# Altium schematic symbol library Microver.SchLib: 988 symbols (part 5 of 17)
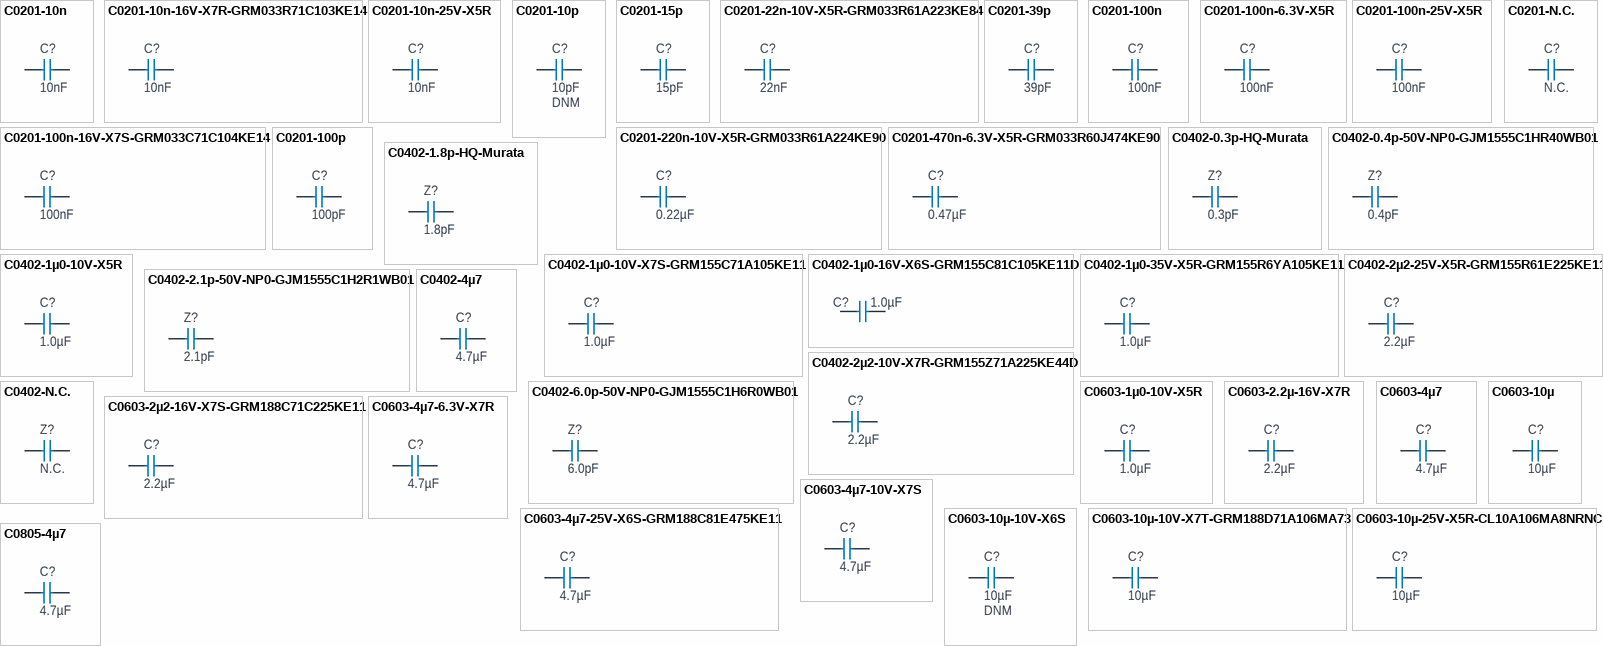
[diagram p33: symbols C0201-10n to C0805-4µ7]

## C0603-4µ7-10V-X7S
designator C?, comment 4.7µF
Capacitor, X7S, ±10%, 10V; Part Number: C0603-4µ7-10V-X7S; Manufacturer: N.A.; Part number IPS: 00000001779; Part number NEMS: 100200351; Pad Count: 2; Artikkelnr Noca: 20030013; Component Status: Active; Value: 4.7µF; Footprint Doc: 0603; Component Class: Capacitors; Author: rsk; ComponentLink1Description: Datasheet; ComponentLink1URL: N.A.; ComponentLink2Description: Supplier link; ComponentLink2URL: N.A.; HelpURL: N.A.; LatestRevisionDate: 2016-08-15; Manufacturer Part Number: N.A.; Note: 10V; PartId: 100200351; Part number Norautron: N.A.; Published: 2016-08-15; Supplier 1: Digi-Key; Supplier 2: N.A.; Supplier Part Number 1: 445-14258-1-ND; Supplier Part Number 2: N.A.
footprint CAPC1608X06L
pins: 1, 2

## C0603-4µ7-25V-X6S-GRM188C81E475KE11
designator C?, comment 4.7µF
Capacitor, Ceramic, 4.7µF 25V X6S 0603,±10%; Part Number: C0603-4µ7-25V-X6S-GRM188C81E475KE11; Manufacturer: Murata; Manufacturer Part Number: GRM188C81E475KE11D; Part number NEMS: 100200486; Pad Count: 2; Artikkelnr Noca: N.A.; Component Status: Active; Component Class: Capacitors; Author: prbu; ComponentLink1URL: https://www.murata.com/en-global/products/productdetail?partno=GRM188C81E475KE11%23; ComponentLink1Description: Datasheet; ComponentLink2URL: https://www.digikey.com/en/products/detail/murata-electronics/GRM188C81E475KE11D/3900424; ComponentLink2Description: Supplier link; HelpURL: N.A.; Footprint Doc: 0603; LatestRevisionDate: 2021-12-09; Published: 2021-12-09; Value: 4.7µF; Note: 25V; Supplier 1: Digi-Key; Supplier Part Number 1: 490-7199-1-ND; Supplier 2: Mouser; Supplier Part Number 2: 81-GRM188C81E475KE1D; Part number IPS: N.A.; Part number Norautron: N.A.; PartId: 100200486
footprint CAPC1608X06L
pins: 1, 2

## C0603-10µ
designator C?, comment 10µF
Capacitor, X5R, ±20%; Part Number: C0603-10µ; Manufacturer: N.A.; Part number IPS: 00000007785; Part number NEMS: 100200275; Note: 6.3V; Artikkelnr Noca: 20039234; Pad Count: 2; Component Status: Active; Manufacturer Part Number: N.A.; ComponentLink1URL: N.A.; ComponentLink1Description: Datasheet; ComponentLink2URL: N.A.; ComponentLink2Description: Supplier link; HelpURL: N.A.; Footprint Doc: 0603; LatestRevisionDate: 2011-01-17; Published: 2011-01-17; Value: 10µF; Supplier 1: N.A.; Supplier Part Number 1: N.A.; Supplier 2: N.A.; Supplier Part Number 2: N.A.; Component Class: Capacitors; PartId: 100200275; Author: rsk; Part number Norautron: N.A.
footprint CAPC1608X06L
pins: 1, 2

## C0603-10µ-10V-X6S
designator C?, comment 10µF  Assembly: DNM
Capacitor, X6S, ±10%; Part Number: C0603-10µ-10V-X6S; Manufacturer: N.A.; Part number NEMS: 100200470; Component Status: Active; Pad Count: 2; Note: 10V; PartId: 100200470; Component Class: Capacitors; Author: getr; Manufacturer Part Number: N.A.; ComponentLink1URL: N.A.; ComponentLink1Description: Datasheet; ComponentLink2URL: N.A.; ComponentLink2Description: Supplier link; HelpURL: N.A.; LatestRevisionDate: 2021-04-13; Published: 2021-04-13; Footprint Doc: 0603; Value: 10µF; Supplier 1: N.A.; Supplier Part Number 1: N.A.; Supplier 2: N.A.; Supplier Part Number 2: N.A.; Artikkelnr Noca: N.A.; Part number IPS: N.A.; Part number Norautron: N.A.
footprint CAPC1608X06L
pins: 1, 2

## C0603-10µ-10V-X7T-GRM188D71A106MA73
designator C?, comment 10µF
Capacitor, X7T, ±20%, 10V; Part Number: C0603-10µ-10V-X7T-GRM188D71A106MA73; Manufacturer: Murata; Manufacturer Part Number: GRM188D71A106MA73D; Part number IPS: 00000004696; Part number NEMS: 100200414; Pad Count: 2; Component Status: Active; Note: 10VDC; Artikkelnr Noca: N.A.; Component Class: Capacitors; Author: rsk; Footprint Doc: 0603; Value: 10µF; PartId: 100200414; ComponentLink1URL: N.A.; ComponentLink1Description: Datasheet; ComponentLink2URL: N.A.; ComponentLink2Description: Supplier link; HelpURL: https://no.mouser.com/datasheet/2/281/murata_03052018_GRM_Series_1-1310166.pdf; LatestRevisionDate: 2021-07-22; Published: 2018-09-11; Supplier 1: Digi-Key; Supplier Part Number 1: 490-7200-1-ND; Supplier 2: Mouser; Supplier Part Number 2: 81-GRM188D71A106MA3D; Part number Norautron: N.A.
footprint CAPC1608X06L
pins: 1, 2

## C0603-10µ-25V-X5R-CL10A106MA8NRNC
designator C?, comment 10µF
Capacitor, X5R, ±20%, 25V; Part Number: C0603-10µ-25V-X5R-CL10A106MA8NRNC; Manufacturer: Samsung Electro-Mechanics America; Manufacturer Part Number: CL10A106MA8NRNC; Part number IPS: 00000009948; Part number Norautron: N.A.; Part number NEMS: 100200354; Component Status: Active; Pad Count: 2; Artikkelnr Noca: 20039436; PartId: 100200354; Component Class: Capacitors; Author: rsk; ComponentLink1URL: N.A.; ComponentLink1Description: Datasheet; ComponentLink2URL: N.A.; ComponentLink2Description: Supplier link; HelpURL: http://www.samsungsem.com/kr/front/downloadcms.do?path=/kr/support/product-search/mlcc/__icsFiles/afieldfile/2014/11/05&fileName=S_CL10A106MA8NRNC.pdf; Footprint Doc: 0603; LatestRevisionDate: 2021-07-21; Published: 2015-04-10; Value: 10µF; Note: 25V; Supplier 1: Digi-Key; Supplier Part Number 1: 1276-1869-1-ND; Supplier 2: N.A.; Supplier Part Number 2: N.A.
footprint CAPC1608X06L
pins: 1, 2

## C0805-4µ7
designator C?, comment 4.7µF
Capacitor, X5R, ±10%, 16V; Part Number: C0805-4µ7; Manufacturer: N.A.; Part number IPS: 00000006289; Part number NEMS: 100200284; Pad Count: 2; Component Status: Active; Artikkelnr Noca: 20039266; Footprint Doc: 0805; Value: 4.7µF; Author: rsk; PartId: 100200284; Component Class: Capacitors; Manufacturer Part Number: N.A.; ComponentLink1URL: N.A.; ComponentLink1Description: Datasheet; ComponentLink2URL: N.A.; ComponentLink2Description: Supplier link; HelpURL: N.A.; LatestRevisionDate: 2020-04-28; Published: 2009-08-21; Note: 16V; Supplier 1: N.A.; Supplier Part Number 1: N.A.; Supplier 2: N.A.; Supplier Part Number 2: N.A.; Part number Norautron: N.A.
footprint CAPC2012X11L
pins: 1, 2

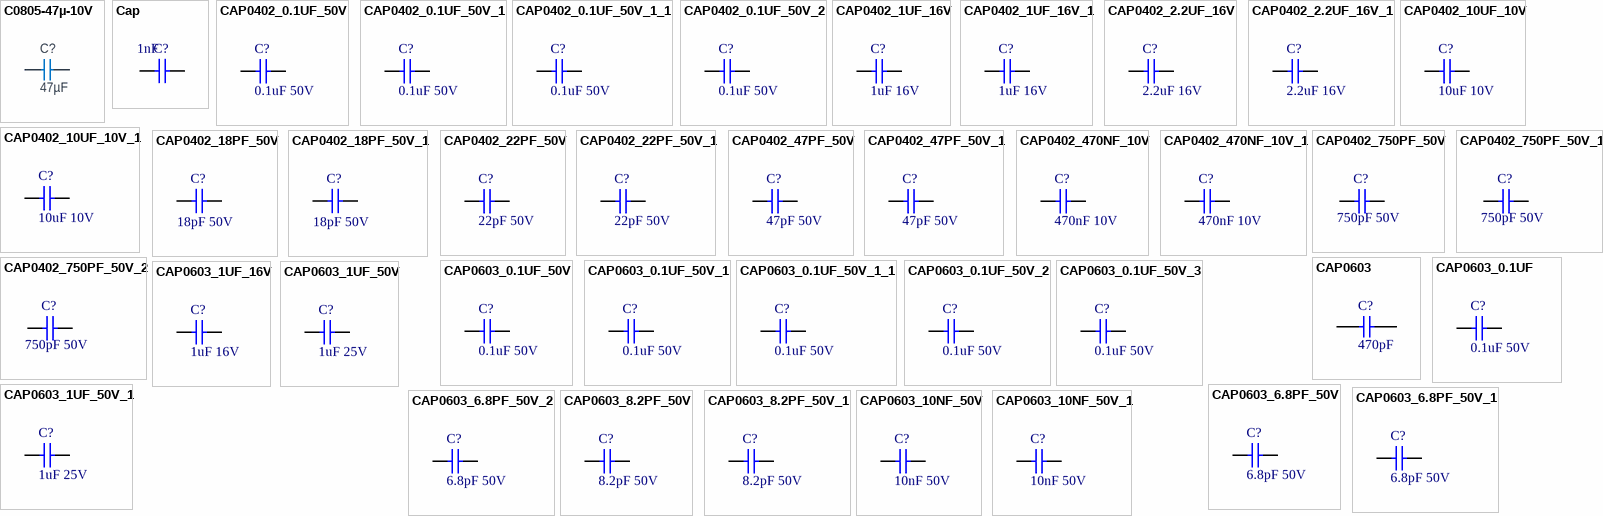
[diagram p6: symbols C0805-47µ-10V to CAP0603_10NF_50V_1]

## C0805-47µ-10V
designator C?, comment 47µF
Capacitor, X5R, ±20%, 10V; Part Number: C0805-47µ-10V; Manufacturer: Murata; Manufacturer Part Number: GRM21BR61A476ME15; Part number IPS: 00000004759; Part number NEMS: 100200288; Pad Count: 2; Component Status: Active; Artikkelnr Noca: N.A.; Footprint Doc: 0805; Value: 47µF; Author: rsk; PartId: 100200288; Component Class: Capacitors; ComponentLink1URL: https://search.murata.co.jp/Ceramy/image/img/A01X/G101/ENG/GRM21BR61A476ME15-01A.pdf; ComponentLink1Description: Datasheet; ComponentLink2URL: N.A.; ComponentLink2Description: Supplier link; HelpURL: https://www.murata.com/en-global/products/productdetail?partno=GRM21BR61A476ME15%23; LatestRevisionDate: 2020-10-23; Published: 2020-08-14; Note: 10V; Supplier 1: Digi-Key; Supplier Part Number 1: 490-9961-1-ND; Supplier 2: N.A.; Supplier Part Number 2: N.A.; Part number Norautron: N.A.
footprint CAPC2012X11L
pins: 1, 2

## Cap
designator C?, comment value 1nF  (hidden comment: 100nF)
LCSC PART #: C2894188
footprint 0603_C (Capacitor)
footprint 0805_C
footprint 1206_C
footprint 1210_C
footprint 0402_C
pins: 1, 2

## CAP0402_0.1UF_50V
designator C?, comment value 0.1uF 50V  (hidden comment: CAP CER 0.1UF 50V X7R 0402)
0.1 µF ±10% 50V Ceramic Capacitor X7R 0402 (1005 Metric); Manufacturer Part Number: CL05B104KB54PNC; Order Code: DIGI: 1276-CL05B104KB54PNCTR-ND; Sirius Stock Code: *; LCSC Part Number: C307331; LCSC Manufacturer Part Number: CL05B104KB54PNC
footprint CAP0402(1005)x0.5
pins: 1, 2

## CAP0402_0.1UF_50V_1
designator C?, comment value 0.1uF 50V  (hidden comment: CAP CER 0.1UF 50V X7R 0402)
0.1 µF ±10% 50V Ceramic Capacitor X7R 0402 (1005 Metric); Manufacturer Part Number: CL05B104KB54PNC; Order Code: DIGI: 1276-CL05B104KB54PNCTR-ND; Sirius Stock Code: *; LCSC Part Number: C307331; LCSC Manufacturer Part Number: CL05B104KB54PNC
footprint CAP0402(1005)x0.5
pins: 1, 2

## CAP0402_0.1UF_50V_1_1
designator C?, comment value 0.1uF 50V  (hidden comment: CAP CER 0.1UF 50V X7R 0402)
0.1 µF ±10% 50V Ceramic Capacitor X7R 0402 (1005 Metric); Manufacturer Part Number: CL05B104KB54PNC; Order Code: DIGI: 1276-CL05B104KB54PNCTR-ND; Sirius Stock Code: *; LCSC Part Number: C307331; LCSC Manufacturer Part Number: CL05B104KB54PNC
footprint CAP0402(1005)x0.5
pins: 1, 2

## CAP0402_0.1UF_50V_2
designator C?, comment value 0.1uF 50V  (hidden comment: CAP CER 0.1UF 50V X7R 0402)
0.1 µF ±10% 50V Ceramic Capacitor X7R 0402 (1005 Metric); Manufacturer Part Number: CL05B104KB54PNC; Order Code: DIGI: 1276-CL05B104KB54PNCTR-ND; Sirius Stock Code: *; LCSC Part Number: C307331; LCSC Manufacturer Part Number: CL05B104KB54PNC
footprint CAP0402(1005)x0.5
pins: 1, 2

## CAP0402_1UF_16V
designator C?, comment value 1uF 16V  (hidden comment: CAP CER 1UF 16V X5R 0402)
1 µF ±10% 16V Ceramic Capacitor X5R 0402 (1005 Metric); Manufacturer Part Number: CL05A105KO5NNNC; Order Code: DIGI: 1276-1067-2-ND; Sirius Stock Code: *; LCSC Part Number: C29266; LCSC Manufacturer Part Number: CL05A105KO5NNNC
footprint CAP0402(1005)x0.5
pins: 1, 2

## CAP0402_1UF_16V_1
designator C?, comment value 1uF 16V  (hidden comment: CAP CER 1UF 16V X5R 0402)
1 µF ±10% 16V Ceramic Capacitor X5R 0402 (1005 Metric); Manufacturer Part Number: CL05A105KO5NNNC; Order Code: DIGI: 1276-1067-2-ND; Sirius Stock Code: *; LCSC Part Number: C29266; LCSC Manufacturer Part Number: CL05A105KO5NNNC
footprint CAP0402(1005)x0.5
pins: 1, 2

## CAP0402_2.2UF_16V
designator C?, comment value 2.2uF 16V  (hidden comment: CAP CER 2.2UF 16V X5R 0402)
2.2 µF ±10% 16V Ceramic Capacitor X5R 0402 (1005 Metric); Manufacturer Part Number: CL05A225KO5NQNC; Order Code: DIGI: 1276-1461-2-ND; Sirius Stock Code: *; LCSC Part Number: C170151; LCSC Manufacturer Part Number: CL05A225KO5NQNC
footprint CAP0402(1005)x0.5
pins: 1, 2

## CAP0402_2.2UF_16V_1
designator C?, comment value 2.2uF 16V  (hidden comment: CAP CER 2.2UF 16V X5R 0402)
2.2 µF ±10% 16V Ceramic Capacitor X5R 0402 (1005 Metric); Manufacturer Part Number: CL05A225KO5NQNC; Order Code: DIGI: 1276-1461-2-ND; Sirius Stock Code: *; LCSC Part Number: C170151; LCSC Manufacturer Part Number: CL05A225KO5NQNC
footprint CAP0402(1005)x0.5
pins: 1, 2

## CAP0402_10UF_10V
designator C?, comment value 10uF 10V  (hidden comment: CAP CER 10UF 10V X5R 0402)
10 µF ±20% 10V Ceramic Capacitor X5R 0402 (1005 Metric); Manufacturer Part Number: CL05A106MP5NUNC; Order Code: DIGI: 1276-1450-2-ND; Sirius Stock Code: *; LCSC Part Number: C315248; LCSC Manufacturer Part Number: CL05A106MP5NUNC
footprint CAP0402(1005)x0.5
pins: 1, 2

## CAP0402_10UF_10V_1
designator C?, comment value 10uF 10V  (hidden comment: CAP CER 10UF 10V X5R 0402)
10 µF ±20% 10V Ceramic Capacitor X5R 0402 (1005 Metric); Manufacturer Part Number: CL05A106MP5NUNC; Order Code: DIGI: 1276-1450-2-ND; Sirius Stock Code: *; LCSC Part Number: C315248; LCSC Manufacturer Part Number: CL05A106MP5NUNC
footprint CAP0402(1005)x0.5
pins: 1, 2

## CAP0402_18PF_50V
designator C?, comment value 18pF 50V  (hidden comment: CAP CER 18PF 50V C0G/NPO 0402)
18 pF ±5% 50V Ceramic Capacitor C0G, NP0 0402 (1005 Metric); Manufacturer Part Number: CC0402JRNPO9BN180; Order Code: DIGI: 311-1415-2-ND; Sirius Stock Code: *; LCSC Part Number: C106202; LCSC Manufacturer Part Number: CC0402JRNPO9BN180
footprint CAP0402(1005)x0.5
pins: 1, 2

## CAP0402_18PF_50V_1
designator C?, comment value 18pF 50V  (hidden comment: CAP CER 18PF 50V C0G/NPO 0402)
18 pF ±5% 50V Ceramic Capacitor C0G, NP0 0402 (1005 Metric); Manufacturer Part Number: CC0402JRNPO9BN180; Order Code: DIGI: 311-1415-2-ND; Sirius Stock Code: *; LCSC Part Number: C106202; LCSC Manufacturer Part Number: CC0402JRNPO9BN180
footprint CAP0402(1005)x0.5
pins: 1, 2

## CAP0402_22PF_50V
designator C?, comment value 22pF 50V  (hidden comment: CAP CER 22PF 50V C0G/NPO 0402)
22 pF ±5% 50V Ceramic Capacitor C0G, NP0 0402 (1005 Metric); Manufacturer Part Number: CC0402JRNPO9BN220; Order Code: DIGI: 311-1018-2-ND; Sirius Stock Code: *; LCSC Part Number: C106203; LCSC Manufacturer Part Number: CC0402JRNPO9BN220
footprint CAP0402(1005)x0.5
pins: 1, 2

## CAP0402_22PF_50V_1
designator C?, comment value 22pF 50V  (hidden comment: CAP CER 22PF 50V C0G/NPO 0402)
22 pF ±5% 50V Ceramic Capacitor C0G, NP0 0402 (1005 Metric); Manufacturer Part Number: CC0402JRNPO9BN220; Order Code: DIGI: 311-1018-2-ND; Sirius Stock Code: *; LCSC Part Number: C106203; LCSC Manufacturer Part Number: CC0402JRNPO9BN220
footprint CAP0402(1005)x0.5
pins: 1, 2

## CAP0402_47PF_50V
designator C?, comment value 47pF 50V  (hidden comment: CAP CER 47PF 50V C0G/NPO 0402)
47 pF ±5% 50V Ceramic Capacitor C0G, NP0 0402 (1005 Metric); Manufacturer Part Number: CC0402JRNPO9BN470; Order Code: DIGI: 311-1021-2-ND; Sirius Stock Code: *; LCSC Part Number: C60137; LCSC Manufacturer Part Number: CC0402JRNPO9BN470
footprint CAP0402(1005)x0.5
pins: 1, 2

## CAP0402_47PF_50V_1
designator C?, comment value 47pF 50V  (hidden comment: CAP CER 47PF 50V C0G/NPO 0402)
47 pF ±5% 50V Ceramic Capacitor C0G, NP0 0402 (1005 Metric); Manufacturer Part Number: CC0402JRNPO9BN470; Order Code: DIGI: 311-1021-2-ND; Sirius Stock Code: *; LCSC Part Number: C60137; LCSC Manufacturer Part Number: CC0402JRNPO9BN470
footprint CAP0402(1005)x0.5
pins: 1, 2

## CAP0402_470NF_10V
designator C?, comment value 470nF 10V  (hidden comment: CAP CER 0.47UF 10V X5R 0402)
0.47 µF ±10% 10V Ceramic Capacitor X5R 0402 (1005 Metric); Manufacturer Part Number: CL05A474KP5NNNC; Order Code: DIGI: 1276-1173-2-ND; Sirius Stock Code: *; LCSC Part Number: C47339; LCSC Manufacturer Part Number: CL05A474KP5NNNC
footprint CAP0402(1005)x0.5
pins: 1, 2

## CAP0402_470NF_10V_1
designator C?, comment value 470nF 10V  (hidden comment: CAP CER 0.47UF 10V X5R 0402)
0.47 µF ±10% 10V Ceramic Capacitor X5R 0402 (1005 Metric); Manufacturer Part Number: CL05A474KP5NNNC; Order Code: DIGI: 1276-1173-2-ND; Sirius Stock Code: *; LCSC Part Number: C47339; LCSC Manufacturer Part Number: CL05A474KP5NNNC
footprint CAP0402(1005)x0.5
pins: 1, 2

## CAP0402_750PF_50V
designator C?, comment value 750pF 50V  (hidden comment: CAP CER 750PF 50V C0G/NP0 0402)
750 pF ±5% 50V Ceramic Capacitor C0G, NP0 0402 (1005 Metric); Manufacturer Part Number: GCM1555C1H751JA16D; Order Code: DIGI: 490-GCM1555C1H751JA16DTR-ND; Sirius Stock Code: *; LCSC Part Number: C710656; LCSC Manufacturer Part Number: GCM1555C1H751JA16D
footprint CAP0402(1005)x0.5
pins: 1, 2

## CAP0402_750PF_50V_1
designator C?, comment value 750pF 50V  (hidden comment: CAP CER 750PF 50V C0G/NP0 0402)
750 pF ±5% 50V Ceramic Capacitor C0G, NP0 0402 (1005 Metric); Manufacturer Part Number: GCM1555C1H751JA16D; Order Code: DIGI: 490-GCM1555C1H751JA16DTR-ND; Sirius Stock Code: *; LCSC Part Number: C710656; LCSC Manufacturer Part Number: GCM1555C1H751JA16D
footprint CAP0402(1005)x0.5
pins: 1, 2

## CAP0402_750PF_50V_2
designator C?, comment value 750pF 50V  (hidden comment: CAP CER 750PF 50V C0G/NP0 0402)
750 pF ±5% 50V Ceramic Capacitor C0G, NP0 0402 (1005 Metric); Manufacturer Part Number: GCM1555C1H751JA16D; Order Code: DIGI: 490-GCM1555C1H751JA16DTR-ND; Sirius Stock Code: *; LCSC Part Number: C710656; LCSC Manufacturer Part Number: GCM1555C1H751JA16D
footprint CAP0402(1005)x0.5
pins: 1, 2

## CAP0603
designator C?, comment 470pF
CAP, MLCC, C0G/NP0, 470PF, 50V, 0603; Product Range:YAGEO - CC Series; Capacitance:470pF; Capacitance Tolerance:± 5%; Dielectric Characteristic:C0G / NP0; Voltage Rating:50V; Ceramic Capacitor Case:0603 [1608 Metric]; Operating ;RoHS Compliant: Yes; Manufacturer: Yageo; Manufacturer Part Number: CC0603JRNPO9BN471; Dielectric: C0G; Insulation Resistance: 100GR; ComponentLink1URL: https://chn-vm-apps.microchip.com/mchprepo/parts/Datasheets/smccp.pdf; ComponentLink1Description: Datasheet; Supplier 1: Digi-Key; Supplier Part Number 1: 311-1520-1-ND; RoHS: Yes; Category: Ceramic Capacitors; Stock 1: 310942; Pricing 1: 1=0,12000, 10=0,08400, 50=0,04780, 100=0,03970, 500=0,02782, 1000=0,02303 (USD); Mount: Surface Mount; Case/Package: 0603; Number of Pins: 2; Case Code (Metric): 1608; Case Code (Imperial): 0603; Dielectric Material: Ceramic; Min Operating Temperature: -55°C; Max Operating Temperature: 125°C; Capacitance: 470pF; Tolerance: 5%; Voltage: 50V; Voltage Rating: 50V; Packaging: Tape and Reel; Voltage Rating (DC): 50V; Package Quantity: 1; Termination: SMD/SMT; Resistor Type: Ceramic; Series: CC; Length: 1.6mm; Width: 0.031inch; Height: 0.8mm; Depth: 0.8mm; Thickness: 0.035inch; Radiation Hardening: No; RoHS Compliant: Yes; REACH SVHC: No SVHC; Lead Free: Lead Free; ComponentLink2URL: https://datasheet.ciiva.com/176/mlccorderingcode-176597.pdf?src-supplier=Digi-Key; ComponentLink2Description: https://datasheet.ciiva.com/176/mlccorderingcode-176597.pdf?src-supplier=Digi-Key; ComponentLink3URL: https://datasheet.ciiva.com/7978/1132289-7978149.pdf?src-supplier=Element14; ComponentLink3Description: https://datasheet.ciiva.com/7978/1132289-7978149.pdf?src-supplier=Element14; ComponentLink4URL: https://datasheet.ciiva.com/176/mlccorderingcode-176598.pdf?src-supplier=Digi-Key; ComponentLink4Description: https://datasheet.ciiva.com/176/mlccorderingcode-176598.pdf?src-supplier=Digi-Key; ComponentLink5URL: https://datasheet.ciiva.com/8033/1734582-8033750.pdf?src-supplier=Element14; ComponentLink5Description: https://datasheet.ciiva.com/8033/1734582-8033750.pdf?src-supplier=Element14; ComponentLink6URL: https://datasheet.ciiva.com/176/mlccorderingcode-176599.pdf?src-supplier=Digi-Key; ComponentLink6Description: https://datasheet.ciiva.com/176/mlccorderingcode-176599.pdf?src-supplier=Digi-Key; ComponentLink7URL: https://datasheet.ciiva.com/15189/getdatasheetpartid-403537-15189147.pdf?src-supplier=Verical; ComponentLink7Description: https://datasheet.ciiva.com/15189/getdatasheetpartid-403537-15189147.pdf?src-supplier=Verical; ComponentLink8URL: https://datasheet.ciiva.com/11464/upy-gp-np0-16v-to-50v-8-11464732.pdf?src-supplier=Avnet; ComponentLink8Description: https://datasheet.ciiva.com/11464/upy-gp-np0-16v-to-50v-8-11464732.pdf?src-supplier=Avnet; ComponentLink9URL: https://datasheet.ciiva.com/13386/upy-gp-np0-16v-to-50v-8-13386333.pdf?src-supplier=Mouser; ComponentLink9Description: https://datasheet.ciiva.com/13386/upy-gp-np0-16v-to-50v-8-13386333.pdf?src-supplier=Mouser; ComponentLink10URL: https://datasheet.ciiva.com/28450/1443161-28450510.pdf?src-supplier=Element14; ComponentLink10Description: https://datasheet.ciiva.com/28450/1443161-28450510.pdf?src-supplier=Element14
footprint C 0603(1608)x0.8_3
pins: 1, 2

## CAP0603_0.1UF
designator C?, comment value 0.1uF 50V  (hidden comment: CAP CER 0.1UF 50V X7R 0603)
0.1 µF ±10% 50V Ceramic Capacitor X7R 0603 (1608 Metric); Manufacturer Part Number: CL10B104KB8NNNL; Order Code: DIGI:1276-CL10B104KB8NNNLTR-ND; Sirius Stock Code: A063-AGC10300001226
footprint CAP0603 (CAPACITOR 0603)
pins: 1, 2

## CAP0603_0.1UF_50V
designator C?, comment value 0.1uF 50V  (hidden comment: CAP CER 0.1UF 50V X7R 0603)
0.1 µF ±10% 50V Ceramic Capacitor X7R 0603 (1608 Metric); Manufacturer Part Number: CL10B104KB8NNNL; LCSC Manufacturer Part Number: CL10B104KB8NNNC; Order Code: DIGI:1276-CL10B104KB8NNNLTR-ND; Sirius Stock Code: A063-AGC10300001226; LCSC Part Number: C1591
footprint SMC0603
pins: 1, 2

## CAP0603_0.1UF_50V_1
designator C?, comment value 0.1uF 50V  (hidden comment: CAP CER 0.1UF 50V X7R 0603)
0.1 µF ±10% 50V Ceramic Capacitor X7R 0603 (1608 Metric); Manufacturer Part Number: CL10B104KB8NNNL; LCSC Manufacturer Part Number: CL10B104KB8NNNC; Order Code: DIGI:1276-CL10B104KB8NNNLTR-ND; Sirius Stock Code: A063-AGC10300001226; LCSC Part Number: C1591
footprint CAP0603 (CAPACITOR 0603)
pins: 1, 2

## CAP0603_0.1UF_50V_1_1
designator C?, comment value 0.1uF 50V  (hidden comment: CAP CER 0.1UF 50V X7R 0603)
0.1 µF ±10% 50V Ceramic Capacitor X7R 0603 (1608 Metric); Manufacturer Part Number: CL10B104KB8NNNL; LCSC Manufacturer Part Number: CL10B104KB8NNNC; Order Code: DIGI:1276-CL10B104KB8NNNLTR-ND; Sirius Stock Code: A063-AGC10300001226; LCSC Part Number: C1591
footprint CAP0603 (CAPACITOR 0603)
pins: 1, 2

## CAP0603_0.1UF_50V_2
designator C?, comment value 0.1uF 50V  (hidden comment: CAP CER 0.1UF 50V X7R 0603)
0.1 µF ±10% 50V Ceramic Capacitor X7R 0603 (1608 Metric); Manufacturer Part Number: CL10B104KB8NNNL; LCSC Manufacturer Part Number: CL10B104KB8NNNC; Order Code: DIGI:1276-CL10B104KB8NNNLTR-ND; Sirius Stock Code: A063-AGC10300001226; LCSC Part Number: C1591
footprint SMC0603
pins: 1, 2

## CAP0603_0.1UF_50V_3
designator C?, comment value 0.1uF 50V  (hidden comment: CAP CER 0.1UF 50V X7R 0603)
0.1 µF ±10% 50V Ceramic Capacitor X7R 0603 (1608 Metric); Manufacturer Part Number: CL10B104KB8NNNL; LCSC Manufacturer Part Number: CL10B104KB8NNNC; Order Code: DIGI:1276-CL10B104KB8NNNLTR-ND; Sirius Stock Code: A063-AGC10300001226; LCSC Part Number: C1591
footprint SMC0603
pins: 1, 2

## CAP0603_1UF_16V
designator C?, comment value 1uF 16V  (hidden comment: CAP CER 1UF 16V X5R 0603)
1 µF ±10% 16V Ceramic Capacitor X5R 0603 (1608 Metric); Manufacturer Part Number: CL10A105KO8NNNC; Order Code: DIGI:1276-1034-2-ND; Sirius Stock Code: S114-0001UFD1KO
footprint CAP0603 (CAPACITOR 0603)
pins: 1, 2

## CAP0603_1UF_50V
designator C?, comment value 1uF 25V  (hidden comment: CAP CER 1UF 25V X5R 0603)
1 µF ±10% 25V Ceramic Capacitor X5R 0603 (1608 Metric); Manufacturer Part Number: CL10A105KA8NNNC; Order Code: Digi: 1276-1102-2-ND; Sirius Stock Code: *; LCSC Part Number: C5673; LCSC Manufacturer Part Number: CL10A105KA8NNNC
footprint SMC0603
pins: 1, 2

## CAP0603_1UF_50V_1
designator C?, comment value 1uF 25V  (hidden comment: CAP CER 1UF 25V X5R 0603)
1 µF ±10% 25V Ceramic Capacitor X5R 0603 (1608 Metric); Manufacturer Part Number: CL10A105KA8NNNC; Order Code: Digi: 1276-1102-2-ND; Sirius Stock Code: *; LCSC Part Number: C5673; LCSC Manufacturer Part Number: CL10A105KA8NNNC
footprint SMC0603
pins: 1, 2

## CAP0603_6.8PF_50V
designator C?, comment value 6.8pF 50V  (hidden comment: CAP CER 6.8PF 50V C0G, NP0 0603)
50V 6.8pF C0G 0603 Multilayer Ceramic Capacitors MLCC - SMD/SMT ROHS; Manufacturer Part Number: 0603CG6R8C500NT; Order Code: LCSC: C1679; Sirius Stock Code: *; LCSC Part Number: C1679; LCSC Manufacturer Part Number: 0603CG6R8C500NT
footprint SMC0603
pins: 1, 2

## CAP0603_6.8PF_50V_1
designator C?, comment value 6.8pF 50V  (hidden comment: CAP CER 6.8PF 50V C0G, NP0 0603)
50V 6.8pF C0G 0603 Multilayer Ceramic Capacitors MLCC - SMD/SMT ROHS; Manufacturer Part Number: 0603CG6R8C500NT; Order Code: LCSC: C1679; Sirius Stock Code: *; LCSC Part Number: C1679; LCSC Manufacturer Part Number: 0603CG6R8C500NT
footprint SMC0603
pins: 1, 2

## CAP0603_6.8PF_50V_2
designator C?, comment value 6.8pF 50V  (hidden comment: CAP CER 6.8PF 50V C0G, NP0 0603)
50V 6.8pF C0G 0603 Multilayer Ceramic Capacitors MLCC - SMD/SMT ROHS; Manufacturer Part Number: 0603CG6R8C500NT; Order Code: LCSC: C1679; Sirius Stock Code: *; LCSC Part Number: C1679; LCSC Manufacturer Part Number: 0603CG6R8C500NT
footprint SMC0603
pins: 1, 2

## CAP0603_8.2PF_50V
designator C?, comment value 8.2pF 50V  (hidden comment: CAP CER 8.2PF 50V C0G/NPO 0603)
8.2 pF ±0.25pF 50V Ceramic Capacitor C0G, NP0 0603 (1608 Metric); Manufacturer Part Number: CC0603CRNPO9BN8R2; Order Code: DIGI : 311-3865-2-ND; LCSC Manufacturer Part Number: CC0603CRNPO9BN8R2; LCSC Part Number: C277519
footprint SMC0603
pins: 1, 2

## CAP0603_8.2PF_50V_1
designator C?, comment value 8.2pF 50V  (hidden comment: CAP CER 8.2PF 50V C0G/NPO 0603)
8.2 pF ±0.25pF 50V Ceramic Capacitor C0G, NP0 0603 (1608 Metric); Manufacturer Part Number: CC0603CRNPO9BN8R2; Order Code: DIGI : 311-3865-2-ND; LCSC Manufacturer Part Number: CC0603CRNPO9BN8R2; LCSC Part Number: C277519
footprint SMC0603
pins: 1, 2

## CAP0603_10NF_50V
designator C?, comment value 10nF 50V  (hidden comment: CAP CER 10000PF 50V X7R 0603)
10000 pF ±10% 50V Ceramic Capacitor X7R 0603 (1608 Metric); Manufacturer Part Number: CL10B103KB8NNNC; Order Code: DIGI : 1276-1009-2-ND; LCSC Manufacturer Part Number: CL10B103KB8NNNC; LCSC Part Number: C1589
footprint SMC0603
pins: 1, 2

## CAP0603_10NF_50V_1
designator C?, comment value 10nF 50V  (hidden comment: CAP CER 10000PF 50V X7R 0603)
10000 pF ±10% 50V Ceramic Capacitor X7R 0603 (1608 Metric); Manufacturer Part Number: CL10B103KB8NNNC; Order Code: DIGI : 1276-1009-2-ND; LCSC Manufacturer Part Number: CL10B103KB8NNNC; LCSC Part Number: C1589
footprint SMC0603
pins: 1, 2

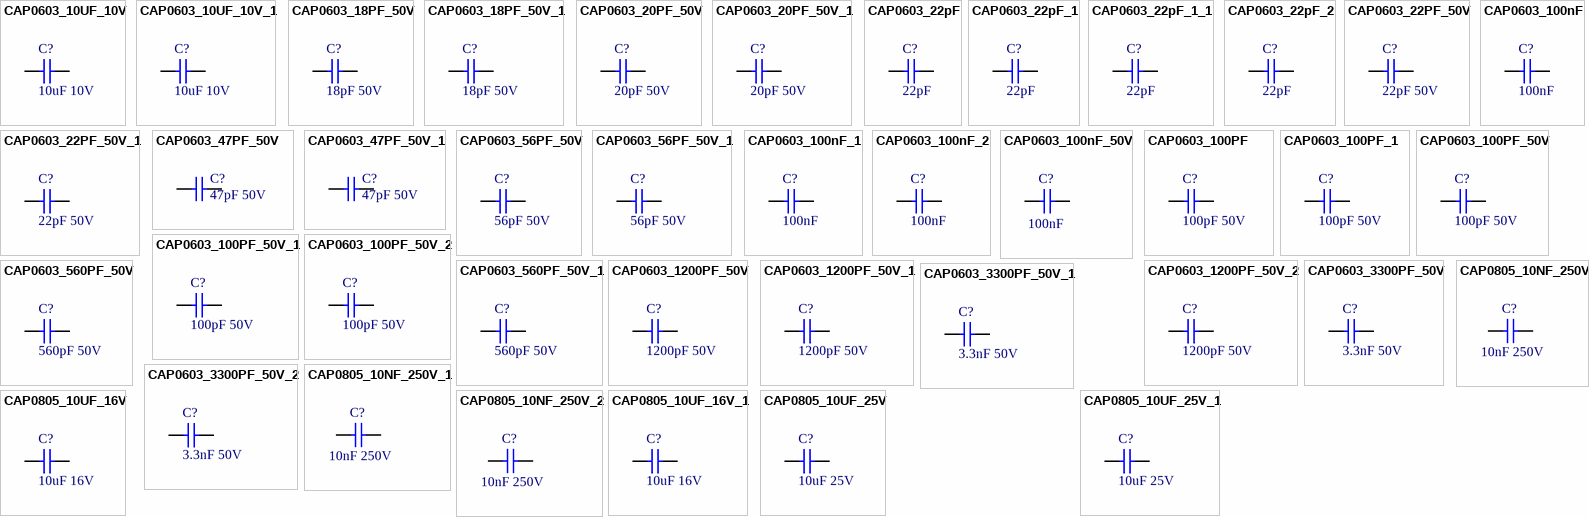
[diagram p7: symbols CAP0603_10UF_10V to CAP0805_10UF_25V_1]

## CAP0603_10UF_10V
designator C?, comment value 10uF 10V  (hidden comment: CAP CER 10UF 10V X5R 0603)
10 µF ±10% 10V Ceramic Capacitor X5R 0603 (1608 Metric); Manufacturer Part Number: CL10A106KP8NNNC; Order Code: DIGI: 1276-1192-2-ND; Sirius Stock Code: *; LCSC Part Number: C19702; LCSC Manufacturer Part Number: CL10A106KP8NNNC
footprint SMC0603
pins: 1, 2

## CAP0603_10UF_10V_1
designator C?, comment value 10uF 10V  (hidden comment: CAP CER 10UF 10V X5R 0603)
10 µF ±10% 10V Ceramic Capacitor X5R 0603 (1608 Metric); Manufacturer Part Number: CL10A106KP8NNNC; Order Code: DIGI: 1276-1192-2-ND; Sirius Stock Code: *; LCSC Part Number: C19702; LCSC Manufacturer Part Number: CL10A106KP8NNNC
footprint SMC0603
pins: 1, 2

## CAP0603_18PF_50V
designator C?, comment value 18pF 50V  (hidden comment: CAP CER 18PF 50V C0G/NPO 0603)
18 pF ±5% 50V Ceramic Capacitor C0G, NP0 0603 (1608 Metric); Manufacturer Part Number: CC0603JRNPO9BN180; Order Code: DIGI : 311-1061-2-ND; LCSC Manufacturer Part Number: CC0603JRNPO9BN180; LCSC Part Number: C107040
footprint SMC0603
pins: 1, 2

## CAP0603_18PF_50V_1
designator C?, comment value 18pF 50V  (hidden comment: CAP CER 18PF 50V C0G/NPO 0603)
18 pF ±5% 50V Ceramic Capacitor C0G, NP0 0603 (1608 Metric); Manufacturer Part Number: CC0603JRNPO9BN180; Order Code: DIGI : 311-1061-2-ND; LCSC Manufacturer Part Number: CC0603JRNPO9BN180; LCSC Part Number: C107040
footprint SMC0603
pins: 1, 2

## CAP0603_20PF_50V
designator C?, comment value 20pF 50V  (hidden comment: CAP CER 20PF 50V C0G/NPO 0603)
20 pF ±5% 50V Ceramic Capacitor C0G, NP0 0603 (1608 Metric); Manufacturer Part Number: CC0603JRNPO9BN200; Order Code: DIGI: 311-1424-2-ND; Sirius Stock Code: *; LCSC Part Number: C105621; LCSC Manufacturer Part Number: CC0603JRNPO9BN200
footprint CAP0603
pins: 1, 2

## CAP0603_20PF_50V_1
designator C?, comment value 20pF 50V  (hidden comment: CAP CER 20PF 50V C0G/NPO 0603)
20 pF ±5% 50V Ceramic Capacitor C0G, NP0 0603 (1608 Metric); Manufacturer Part Number: CC0603JRNPO9BN200; Order Code: DIGI: 311-1424-2-ND; Sirius Stock Code: *; LCSC Part Number: C105621; LCSC Manufacturer Part Number: CC0603JRNPO9BN200
footprint CAP0603
pins: 1, 2

## CAP0603_22pF
designator C?, comment value 22pF  (hidden comment: 100nF 25V)
22pF; Manufacturer Part Number: CL10B104KA8NNNC; LCSC Part Number: C1590
footprint CAP0603 (CAPACITOR 0603)
pins: 1, 2

## CAP0603_22pF_1
designator C?, comment value 22pF  (hidden comment: 100nF 25V)
22pF; Manufacturer Part Number: CC0603JRNPO9BN220; LCSC Part Number: C105620
footprint CAP0603 (CAPACITOR 0603)
pins: 1, 2

## CAP0603_22pF_1_1
designator C?, comment value 22pF  (hidden comment: 100nF 25V)
22pF; Manufacturer Part Number: CC0603JRNPO9BN220; LCSC Part Number: C105620
footprint CAP0603 (CAPACITOR 0603)
pins: 1, 2

## CAP0603_22pF_2
designator C?, comment value 22pF  (hidden comment: 100nF 25V)
22pF; Manufacturer Part Number: CL10B104KA8NNNC; LCSC Part Number: C1590
footprint CAP0603 (CAPACITOR 0603)
pins: 1, 2

## CAP0603_22PF_50V
designator C?, comment value 22pF 50V  (hidden comment: CAP CER 22PF 50V C0G/NPO 0603)
22 pF ±5% 50V Ceramic Capacitor C0G, NP0 0603 (1608 Metric); Manufacturer Part Number: CC0603JRNPO9BN220; Order Code: DIGI: 311-1062-2-ND; Sirius Stock Code: *; LCSC Part Number: C105620; LCSC Manufacturer Part Number: CC0603JRNPO9BN220
footprint SMC0603
pins: 1, 2

## CAP0603_22PF_50V_1
designator C?, comment value 22pF 50V  (hidden comment: CAP CER 22PF 50V C0G/NPO 0603)
22 pF ±5% 50V Ceramic Capacitor C0G, NP0 0603 (1608 Metric); Manufacturer Part Number: CC0603JRNPO9BN220; Order Code: DIGI: 311-1062-2-ND; Sirius Stock Code: *; LCSC Part Number: C105620; LCSC Manufacturer Part Number: CC0603JRNPO9BN220
footprint SMC0603
pins: 1, 2

## CAP0603_47PF_50V
designator C?, comment value 47pF 50V  (hidden comment: CAP CER 47PF 50V C0G/NPO 0603)
47 pF ±5% 50V Ceramic Capacitor C0G, NP0 0603 (1608 Metric); Manufacturer Part Number: CC0603JRNPO9BN470; Order Code: DIGI : 311-1065-2-ND; LCSC Manufacturer Part Number: CC0603JRNPO9BN470; LCSC Part Number: C105622
footprint SMC0603
pins: 1, 2

## CAP0603_47PF_50V_1
designator C?, comment value 47pF 50V  (hidden comment: CAP CER 47PF 50V C0G/NPO 0603)
47 pF ±5% 50V Ceramic Capacitor C0G, NP0 0603 (1608 Metric); Manufacturer Part Number: CC0603JRNPO9BN470; Order Code: DIGI : 311-1065-2-ND; LCSC Manufacturer Part Number: CC0603JRNPO9BN470; LCSC Part Number: C105622
footprint SMC0603
pins: 1, 2

## CAP0603_56PF_50V
designator C?, comment value 56pF 50V  (hidden comment: CAP CER 56PF 50V C0G/NPO 0603)
56 pF ±5% 50V Ceramic Capacitor C0G, NP0 0603 (1608 Metric); Manufacturer Part Number: CC0603JRNPO9BN560; Order Code: DIGI : 311-1066-2-ND; LCSC Manufacturer Part Number: CC0603JRNPO9BN560; LCSC Part Number: C107053
footprint SMC0603
pins: 1, 2

## CAP0603_56PF_50V_1
designator C?, comment value 56pF 50V  (hidden comment: CAP CER 56PF 50V C0G/NPO 0603)
56 pF ±5% 50V Ceramic Capacitor C0G, NP0 0603 (1608 Metric); Manufacturer Part Number: CC0603JRNPO9BN560; Order Code: DIGI : 311-1066-2-ND; LCSC Manufacturer Part Number: CC0603JRNPO9BN560; LCSC Part Number: C107053
footprint SMC0603
pins: 1, 2

## CAP0603_100nF
designator C?, comment value 100nF  (hidden comment: 100nF 25V)
0.1 µF ±10% 50V Ceramic Capacitor X7R 0603 (1608 Metric); Manufacturer Part Number: CL10B104KA8NNNC; LCSC Part Number: C1590
footprint CAP0603 (CAPACITOR 0603)
pins: 1, 2

## CAP0603_100nF_1
designator C?, comment value 100nF  (hidden comment: 100nF 25V)
0.1 µF ±10% 50V Ceramic Capacitor X7R 0603 (1608 Metric); Manufacturer Part Number: CL10B104KA8NNNC; LCSC Part Number: C1590
footprint CAP0603 (CAPACITOR 0603)
pins: 1, 2

## CAP0603_100nF_2
designator C?, comment value 100nF  (hidden comment: 100nF 25V)
0.1 µF ±10% 50V Ceramic Capacitor X7R 0603 (1608 Metric); Manufacturer Part Number: CL10B104KA8NNNC; LCSC Part Number: C1590
footprint CAP0603 (CAPACITOR 0603)
pins: 1, 2

## CAP0603_100nF_50V
designator C?, comment value 100nF  (hidden comment: CAP CER 0.1UF 50V X7R 0603)
50V 100nF X7R ±10% 0603 Multilayer Ceramic Capacitors MLCC - SMD/SMT ROHS; Manufacturer Part Number: CC0603KRX7R9BB104; Order Code: DIGI: 1276-2789-2-ND; LCSC Part Number: C14663; LCSC Manufacturer Part Number: CC0603KRX7R9BB104
footprint SMC0603
pins: 1, 2

## CAP0603_100PF
designator C?, comment value 100pF 50V  (hidden comment: CAP CER 100PF 50V C0G/NP0 0603)
100 pF ±5% 50V Ceramic Capacitor C0G, NP0 0603 (1608 Metric); Manufacturer Part Number: CL10C101JB8NNNC; LCSC Part Number: C14858
footprint CAP0603 (CAPACITOR 0603)
pins: 1, 2

## CAP0603_100PF_1
designator C?, comment value 100pF 50V  (hidden comment: CAP CER 100PF 50V C0G/NP0 0603)
100 pF ±5% 50V Ceramic Capacitor C0G, NP0 0603 (1608 Metric); Manufacturer Part Number: CL10C101JB8NNNC; LCSC Part Number: C14858
footprint CAP0603 (CAPACITOR 0603)
pins: 1, 2

## CAP0603_100PF_50V
designator C?, comment value 100pF 50V  (hidden comment: CAP CER 100PF 50V C0G/NP0 0603)
100 pF ±5% 50V Ceramic Capacitor C0G, NP0 0603 (1608 Metric); Manufacturer Part Number: 06035A101JAT2A; LCSC Manufacturer Part Number: CC0603JRNPO9BN101; Order Code: DIGI: 478-1175-2-ND; Sirius Stock Code: *; LCSC Part Number: C14665
footprint SMC0603
pins: 1, 2

## CAP0603_100PF_50V_1
designator C?, comment value 100pF 50V  (hidden comment: CAP CER 100PF 50V C0G/NP0 0603)
100 pF ±5% 50V Ceramic Capacitor C0G, NP0 0603 (1608 Metric); Manufacturer Part Number: 06035A101JAT2A; LCSC Manufacturer Part Number: CC0603JRNPO9BN101; Order Code: DIGI: 478-1175-2-ND; Sirius Stock Code: *; LCSC Part Number: C14665
footprint SMC0603
pins: 1, 2

## CAP0603_100PF_50V_2
designator C?, comment value 100pF 50V  (hidden comment: CAP CER 100PF 50V C0G/NP0 0603)
100 pF ±5% 50V Ceramic Capacitor C0G, NP0 0603 (1608 Metric); Manufacturer Part Number: 06035A101JAT2A; LCSC Manufacturer Part Number: CC0603JRNPO9BN101; Order Code: DIGI: 478-1175-2-ND; Sirius Stock Code: *; LCSC Part Number: C14665
footprint SMC0603
pins: 1, 2

## CAP0603_560PF_50V
designator C?, comment value 560pF 50V  (hidden comment: CAP CER 560PF 50V X7R 0603)
560 pF ±10% 50V Ceramic Capacitor X7R 0603 (1608 Metric); Manufacturer Part Number: CC0603KRX7R9BB561; Order Code: DIGI : 311-1079-2-ND; LCSC Manufacturer Part Number: CC0603KRX7R9BB561; LCSC Part Number: C107094
footprint SMC0603
pins: 1, 2

## CAP0603_560PF_50V_1
designator C?, comment value 560pF 50V  (hidden comment: CAP CER 560PF 50V X7R 0603)
560 pF ±10% 50V Ceramic Capacitor X7R 0603 (1608 Metric); Manufacturer Part Number: CC0603KRX7R9BB561; Order Code: DIGI : 311-1079-2-ND; LCSC Manufacturer Part Number: CC0603KRX7R9BB561; LCSC Part Number: C107094
footprint SMC0603
pins: 1, 2

## CAP0603_1200PF_50V
designator C?, comment value 1200pF 50V  (hidden comment: CAP CER 1200PF 50V X7R 0603)
1200 pF ±10% 50V Ceramic Capacitor X7R 0603 (1608 Metric); Manufacturer Part Number: C0603C122K5RAC7867; Order Code: DIGI : 399-C0603C122K5RAC7867TR-ND; LCSC Manufacturer Part Number: C0603C122K5RAC7867; LCSC Part Number: C2168436
footprint SMC0603
pins: 1, 2

## CAP0603_1200PF_50V_1
designator C?, comment value 1200pF 50V  (hidden comment: CAP CER 1200PF 50V X7R 0603)
1200 pF ±10% 50V Ceramic Capacitor X7R 0603 (1608 Metric); Manufacturer Part Number: C0603C122K5RAC7867; Order Code: DIGI : 399-C0603C122K5RAC7867TR-ND; LCSC Manufacturer Part Number: C0603C122K5RAC7867; LCSC Part Number: C2168436
footprint SMC0603
pins: 1, 2

## CAP0603_1200PF_50V_2
designator C?, comment value 1200pF 50V  (hidden comment: CAP CER 1200PF 50V X7R 0603)
1200 pF ±10% 50V Ceramic Capacitor X7R 0603 (1608 Metric); Manufacturer Part Number: C0603C122K5RAC7867; Order Code: DIGI : 399-C0603C122K5RAC7867TR-ND; LCSC Manufacturer Part Number: C0603C122K5RAC7867; LCSC Part Number: C2168436
footprint SMC0603
pins: 1, 2

## CAP0603_3300PF_50V
designator C?, comment value 3.3nF 50V  (hidden comment: CAP CER 3300PF 50V X7R 0603)
3300 pF ±10% 50V Ceramic Capacitor X7R 0603 (1608 Metric); Manufacturer Part Number: CC0603KRX7R9BB332; Order Code: Digi: 311-1082-2-ND; Sirius Stock Code: *; LCSC Part Number: C107088; LCSC Manufacturer Part Number: CC0603KRX7R9BB332
footprint SMC0603
pins: 1, 2

## CAP0603_3300PF_50V_1
designator C?, comment value 3.3nF 50V  (hidden comment: CAP CER 3300PF 50V X7R 0603)
3300 pF ±10% 50V Ceramic Capacitor X7R 0603 (1608 Metric); Manufacturer Part Number: CC0603KRX7R9BB332; Order Code: Digi: 311-1082-2-ND; Sirius Stock Code: *; LCSC Part Number: C107088; LCSC Manufacturer Part Number: CC0603KRX7R9BB332
footprint SMC0603
pins: 1, 2

## CAP0603_3300PF_50V_2
designator C?, comment value 3.3nF 50V  (hidden comment: CAP CER 3300PF 50V X7R 0603)
3300 pF ±10% 50V Ceramic Capacitor X7R 0603 (1608 Metric); Manufacturer Part Number: CC0603KRX7R9BB332; Order Code: Digi: 311-1082-2-ND; Sirius Stock Code: *; LCSC Part Number: C107088; LCSC Manufacturer Part Number: CC0603KRX7R9BB332
footprint SMC0603
pins: 1, 2

## CAP0805_10NF_250V
designator C?, comment value 10nF 250V  (hidden comment: CAP CER 10NF 250V X7R 0805)
250V 10nF X7R ±10% 0805 Multilayer Ceramic Capacitors MLCC - SMD/SMT ROHS; Manufacturer Part Number: TCC0805X7R103K251DT; Order Code: LCSC: C282726; LCSC Manufacturer Part Number: TCC0805X7R103K251DT; LCSC Part Number: C282726
footprint SMC0805
pins: 1, 2

## CAP0805_10NF_250V_1
designator C?, comment value 10nF 250V  (hidden comment: CAP CER 10NF 250V X7R 0805)
250V 10nF X7R ±10% 0805 Multilayer Ceramic Capacitors MLCC - SMD/SMT ROHS; Manufacturer Part Number: TCC0805X7R103K251DT; Order Code: LCSC: C282726; LCSC Manufacturer Part Number: TCC0805X7R103K251DT; LCSC Part Number: C282726
footprint SMC0805
pins: 1, 2

## CAP0805_10NF_250V_2
designator C?, comment value 10nF 250V  (hidden comment: CAP CER 10NF 250V X7R 0805)
250V 10nF X7R ±10% 0805 Multilayer Ceramic Capacitors MLCC - SMD/SMT ROHS; Manufacturer Part Number: TCC0805X7R103K251DT; Order Code: LCSC: C282726; LCSC Manufacturer Part Number: TCC0805X7R103K251DT; LCSC Part Number: C282726
footprint SMC0805
pins: 1, 2

## CAP0805_10UF_16V
designator C?, comment value 10uF 16V  (hidden comment: CAP CER 10UF 16V X7R 0805)
10 µF ±10% 16V Ceramic Capacitor X7R 0805 (2012 Metric); Manufacturer Part Number: CL21B106KOQNNNE; Order Code: DIGI: 1276-2872-2-ND; Sirius Stock Code: *; LCSC Manufacturer Part Number: CL21B106KOQNNNE; LCSC Part Number: C95841
footprint CAP0805
pins: 1, 2

## CAP0805_10UF_16V_1
designator C?, comment value 10uF 16V  (hidden comment: CAP CER 10UF 16V X7R 0805)
10 µF ±10% 16V Ceramic Capacitor X7R 0805 (2012 Metric); Manufacturer Part Number: CL21B106KOQNNNE; Order Code: DIGI: 1276-2872-2-ND; Sirius Stock Code: *; LCSC Manufacturer Part Number: CL21B106KOQNNNE; LCSC Part Number: C95841
footprint CAP0805
pins: 1, 2

## CAP0805_10UF_25V
designator C?, comment value 10uF 25V  (hidden comment: CAP CER 10UF 25V X5R 0805)
10 µF ±10% 25V Ceramic Capacitor X5R 0805 (2012 Metric); Manufacturer Part Number: CL21A106KAYNNNE; Order Code: DIGI: 1276-2891-2-ND; Sirius Stock Code: *; LCSC Manufacturer Part Number: CL21A106KAYNNNE; LCSC Part Number: C15850
footprint SMC0805
pins: 1, 2

## CAP0805_10UF_25V_1
designator C?, comment value 10uF 25V  (hidden comment: CAP CER 10UF 25V X5R 0805)
10 µF ±10% 25V Ceramic Capacitor X5R 0805 (2012 Metric); Manufacturer Part Number: CL21A106KAYNNNE; Order Code: DIGI: 1276-2891-2-ND; Sirius Stock Code: *; LCSC Manufacturer Part Number: CL21A106KAYNNNE; LCSC Part Number: C15850
footprint SMC0805
pins: 1, 2

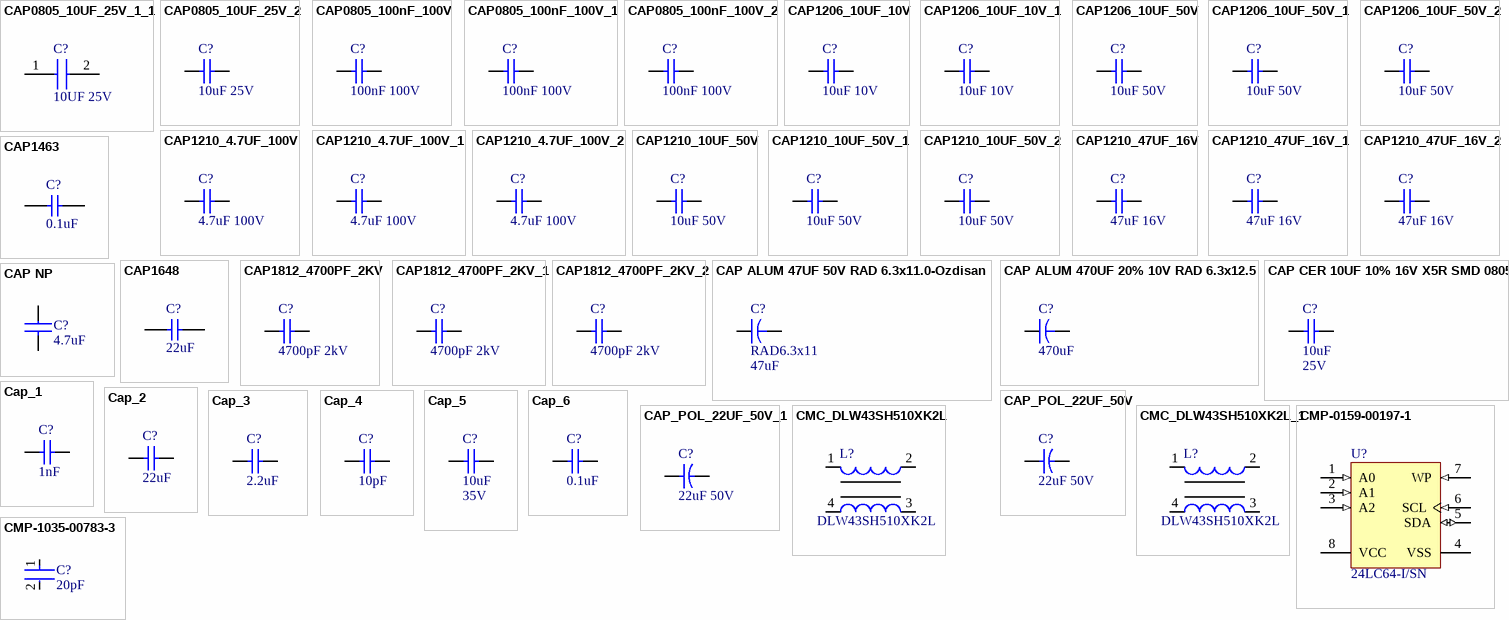
[diagram p8: symbols CAP0805_10UF_25V_1_1 to CMP-1035-00783-3]

## CAP0805_10UF_25V_1_1
designator C?, comment 10UF 25V
10 µF ±10% 25V Ceramic Capacitor X5R 0805 (2012 Metric); Manufacturer_Name: Yageo; Manufacturer_Part_Number: CC0805KKX5R8BB106; Datasheet Link: https://www.yageo.com/upload/media/product/productsearch/datasheet/mlcc/UPY-GPHC_X5R_4V-to-50V_27.pdf; Height: 1.45mm; Mouser Part Number: 603-CC805KKX5R8BB106; Mouser Price/Stock: https://www.mouser.co.uk/ProductDetail/YAGEO/CC0805KKX5R8BB106?qs=57cj7OiSijm89pM64t1AGQ%3D%3D
footprint CAPC2012X145N
pins: 1, 2

## CAP0805_10UF_25V_2
designator C?, comment value 10uF 25V  (hidden comment: CAP CER 10UF 25V X5R 0805)
10 µF ±10% 25V Ceramic Capacitor X5R 0805 (2012 Metric); Manufacturer Part Number: CL21A106KAYNNNE; Order Code: DIGI: 1276-2891-2-ND; Sirius Stock Code: *; LCSC Manufacturer Part Number: CL21A106KAYNNNE; LCSC Part Number: C15850
footprint SMC0805
pins: 1, 2

## CAP0805_100nF_100V
designator C?, comment value 100nF 100V  (hidden comment: CAP CER 0.1UF 100V X7R 0805)
0.1 µF ±10% 100V Ceramic Capacitor X7R 0805 (2012 Metric); Manufacturer Part Number: CL21B104KCFNNNE; Order Code: DIGI : 1276-6840-1-ND; LCSC Manufacturer Part Number: CL21B104KCFNNNE; LCSC Part Number: C28233
footprint SMC0805
pins: 1, 2

## CAP0805_100nF_100V_1
designator C?, comment value 100nF 100V  (hidden comment: CAP CER 0.1UF 100V X7R 0805)
0.1 µF ±10% 100V Ceramic Capacitor X7R 0805 (2012 Metric); Manufacturer Part Number: CL21B104KCFNNNE; Order Code: DIGI : 1276-6840-1-ND; LCSC Manufacturer Part Number: CL21B104KCFNNNE; LCSC Part Number: C28233
footprint SMC0805
pins: 1, 2

## CAP0805_100nF_100V_2
designator C?, comment value 100nF 100V  (hidden comment: CAP CER 0.1UF 100V X7R 0805)
0.1 µF ±10% 100V Ceramic Capacitor X7R 0805 (2012 Metric); Manufacturer Part Number: CL21B104KCFNNNE; Order Code: DIGI : 1276-6840-1-ND; LCSC Manufacturer Part Number: CL21B104KCFNNNE; LCSC Part Number: C28233
footprint SMC0805
pins: 1, 2

## CAP1206_10UF_10V
designator C?, comment value 10uF 10V  (hidden comment: CAP CER 10UF 10V X7R 1206)
10 µF ±10% 10V Ceramic Capacitor X7R 1206 (3216 Metric); Manufacturer Part Number: CL31B106KPHNNNE; Order Code: Digi: 1276-1311-2-ND; Sirius Stock Code: *; LCSC Part Number: C96449; LCSC Manufacturer Part Number: CL31B106KPHNNNE
footprint SMC1206
pins: 1, 2

## CAP1206_10UF_10V_1
designator C?, comment value 10uF 10V  (hidden comment: CAP CER 10UF 10V X7R 1206)
10 µF ±10% 10V Ceramic Capacitor X7R 1206 (3216 Metric); Manufacturer Part Number: CL31B106KPHNNNE; Order Code: Digi: 1276-1311-2-ND; Sirius Stock Code: *; LCSC Part Number: C96449; LCSC Manufacturer Part Number: CL31B106KPHNNNE
footprint SMC1206
pins: 1, 2

## CAP1206_10UF_50V
designator C?, comment value 10uF 50V  (hidden comment: CAP CER 10UF 50V X5R 1206)
10 µF ±10% 50V Ceramic Capacitor X5R 1206 (3216 Metric); Manufacturer Part Number: CL31A106KBHNNNE; Order Code: Digi: 1276-2876-2-ND; Sirius Stock Code: *; LCSC Part Number: C13585; LCSC Manufacturer Part Number: CL31A106KBHNNNE
footprint SMC1206
pins: 1, 2

## CAP1206_10UF_50V_1
designator C?, comment value 10uF 50V  (hidden comment: CAP CER 10UF 50V X5R 1206)
10 µF ±10% 50V Ceramic Capacitor X5R 1206 (3216 Metric); Manufacturer Part Number: CL31A106KBHNNNE; Order Code: Digi: 1276-2876-2-ND; Sirius Stock Code: *; LCSC Part Number: C13585; LCSC Manufacturer Part Number: CL31A106KBHNNNE
footprint SMC1206
pins: 1, 2

## CAP1206_10UF_50V_2
designator C?, comment value 10uF 50V  (hidden comment: CAP CER 10UF 50V X5R 1206)
10 µF ±10% 50V Ceramic Capacitor X5R 1206 (3216 Metric); Manufacturer Part Number: CL31A106KBHNNNE; Order Code: Digi: 1276-2876-2-ND; Sirius Stock Code: *; LCSC Part Number: C13585; LCSC Manufacturer Part Number: CL31A106KBHNNNE
footprint SMC1206
pins: 1, 2

## CAP1210_4.7UF_100V
designator C?, comment value 4.7uF 100V  (hidden comment: CAP CER 4.7UF 100V X7S 1210)
4.7 µF ±10% 100V Ceramic Capacitor X7S 1210 (3225 Metric); Manufacturer Part Number: CL32Y475KCIVPNE; Order Code: Digi: 1276-CL32Y475KCIVPNETR-ND; LCSC Manufacturer Part Number: CL32Y475KCIVPNE; LCSC Part Number: C2803397
footprint CAP1210 (CAPACITOR 1210)
pins: 1, 2

## CAP1210_4.7UF_100V_1
designator C?, comment value 4.7uF 100V  (hidden comment: CAP CER 4.7UF 100V X7S 1210)
4.7 µF ±10% 100V Ceramic Capacitor X7S 1210 (3225 Metric); Manufacturer Part Number: CL32Y475KCIVPNE; Order Code: Digi: 1276-CL32Y475KCIVPNETR-ND; LCSC Manufacturer Part Number: CL32Y475KCIVPNE; LCSC Part Number: C2803397
footprint CAP1210 (CAPACITOR 1210)
pins: 1, 2

## CAP1210_4.7UF_100V_2
designator C?, comment value 4.7uF 100V  (hidden comment: CAP CER 4.7UF 100V X7S 1210)
4.7 µF ±10% 100V Ceramic Capacitor X7S 1210 (3225 Metric); Manufacturer Part Number: CL32Y475KCIVPNE; Order Code: Digi: 1276-CL32Y475KCIVPNETR-ND; LCSC Manufacturer Part Number: CL32Y475KCIVPNE; LCSC Part Number: C2803397
footprint CAP1210 (CAPACITOR 1210)
pins: 1, 2

## CAP1210_10UF_50V
designator C?, comment value 10uF 50V  (hidden comment: CAP CER 10UF 50V X7R 1210)
50V 10uF X7R 1210 Multilayer Ceramic Capacitors MLCC - SMD/SMT ROHS; Manufacturer Part Number: CS3225X7R106K500NRL; Order Code: LCSC: C2918502; LCSC Manufacturer Part Number: CS3225X7R106K500NRL; LCSC Part Number: C2918502
footprint CAP1210 (CAPACITOR 1210)
pins: 1, 2

## CAP1210_10UF_50V_1
designator C?, comment value 10uF 50V  (hidden comment: CAP CER 10UF 50V X7R 1210)
50V 10uF X7R 1210 Multilayer Ceramic Capacitors MLCC - SMD/SMT ROHS; Manufacturer Part Number: CS3225X7R106K500NRL; Order Code: LCSC: C2918502; LCSC Manufacturer Part Number: CS3225X7R106K500NRL; LCSC Part Number: C2918502
footprint CAP1210 (CAPACITOR 1210)
pins: 1, 2

## CAP1210_10UF_50V_2
designator C?, comment value 10uF 50V  (hidden comment: CAP CER 10UF 50V X7R 1210)
50V 10uF X7R 1210 Multilayer Ceramic Capacitors MLCC - SMD/SMT ROHS; Manufacturer Part Number: CS3225X7R106K500NRL; Order Code: LCSC: C2918502; LCSC Manufacturer Part Number: CS3225X7R106K500NRL; LCSC Part Number: C2918502
footprint CAP1210 (CAPACITOR 1210)
pins: 1, 2

## CAP1210_47UF_16V
designator C?, comment value 47uF 16V  (hidden comment: CAP CER 47UF 16V X5R 1210)
16V 47uF X5R ±10% 1210 Multilayer Ceramic Capacitors MLCC - SMD/SMT ROHS; Manufacturer Part Number: CS3225X5R476K160NRL; Order Code: LCSC: C2918513; LCSC Manufacturer Part Number: CS3225X5R476K160NRL; LCSC Part Number: C2918513
footprint CAP1210 (CAPACITOR 1210)
pins: 1, 2

## CAP1210_47UF_16V_1
designator C?, comment value 47uF 16V  (hidden comment: CAP CER 47UF 16V X5R 1210)
16V 47uF X5R ±10% 1210 Multilayer Ceramic Capacitors MLCC - SMD/SMT ROHS; Manufacturer Part Number: CS3225X5R476K160NRL; Order Code: LCSC: C2918513; LCSC Manufacturer Part Number: CS3225X5R476K160NRL; LCSC Part Number: C2918513
footprint CAP1210 (CAPACITOR 1210)
pins: 1, 2

## CAP1210_47UF_16V_2
designator C?, comment value 47uF 16V  (hidden comment: CAP CER 47UF 16V X5R 1210)
16V 47uF X5R ±10% 1210 Multilayer Ceramic Capacitors MLCC - SMD/SMT ROHS; Manufacturer Part Number: CS3225X5R476K160NRL; Order Code: LCSC: C2918513; LCSC Manufacturer Part Number: CS3225X5R476K160NRL; LCSC Part Number: C2918513
footprint CAP1210 (CAPACITOR 1210)
pins: 1, 2

## CAP1463
designator C?, comment 0.1uF
CAPACITOR CERAMIC, 0.1UF, 50V, X7R, 10%, 0603; Manufacturer: Yageo; Manufacturer Part Number: CC0603KRX7R9BB104; Capacitance: 100nF; ComponentLink1URL: https://chn-vm-apps.microchip.com/mchprepo/parts/Datasheets/TDKMLCCCapRange.pdf; ComponentLink1Description: Datasheets; Supplier 1: Digi-Key; Supplier Part Number 1: 311-1344-1-ND; RoHS: Yes; Category: Ceramic Capacitors; Stock 1: 13652525; Pricing 1: 1=0,10000, 10=0,06200, 50=0,03380, 100=0,02760, 500=0,01972, 1000=0,01550 (USD); Mount: Surface Mount; Case/Package: 0603; Number of Pins: 2; Case Code (Metric): 1608; Case Code (Imperial): 0603; Dielectric Material: Ceramic; Min Operating Temperature: -55°C; Max Operating Temperature: 125°C; Package Quantity: 1; Voltage Rating: 50V; Tolerance: 10%; Packaging: Tape and Reel; Dielectric: X7R; Termination: SMD/SMT; Voltage: 50V; Series: CC; Length: 1.6mm; Width: 0.031inch; Height: 0.8mm; Thickness: 0.035inch; Depth: 0.8mm; Radiation Hardening: No; REACH SVHC: No SVHC; Lead Free: Lead Free; Halogen Free: Halogen Free; RoHS Compliant: Yes; ComponentLink2URL: https://datasheet.ciiva.com/11786/0900766b80d84f1d-11786061.pdf?src-supplier=RSComponents; ComponentLink2Description: https://datasheet.ciiva.com/11786/0900766b80d84f1d-11786061.pdf?src-supplier=RSComponents; ComponentLink3URL: https://datasheet.ciiva.com/144/mlccorderingcode-144176.pdf?src-supplier=Digi-Key; ComponentLink3Description: https://datasheet.ciiva.com/144/mlccorderingcode-144176.pdf?src-supplier=Digi-Key; ComponentLink4URL: https://datasheet.ciiva.com/144/mlccorderingcode-144177.pdf?src-supplier=Digi-Key; ComponentLink4Description: https://datasheet.ciiva.com/144/mlccorderingcode-144177.pdf?src-supplier=Digi-Key; ComponentLink5URL: https://datasheet.ciiva.com/144/mlccorderingcode-144178.pdf?src-supplier=Digi-Key; ComponentLink5Description: https://datasheet.ciiva.com/144/mlccorderingcode-144178.pdf?src-supplier=Digi-Key; ComponentLink6URL: https://datasheet.ciiva.com/7978/1489800-7978166.pdf?src-supplier=Element14; ComponentLink6Description: https://datasheet.ciiva.com/7978/1489800-7978166.pdf?src-supplier=Element14; ComponentLink7URL: https://datasheet.ciiva.com/16625/upy-gphc-x7r-6-3v-to-50v-8-16625530.pdf?src-supplier=Avnet+Europe; ComponentLink7Description: https://datasheet.ciiva.com/16625/upy-gphc-x7r-6-3v-to-50v-8-16625530.pdf?src-supplier=Avnet+Europe; ComponentLink8URL: https://datasheet.ciiva.com/8033/70765-8033819.pdf?src-supplier=Element14; ComponentLink8Description: https://datasheet.ciiva.com/8033/70765-8033819.pdf?src-supplier=Element14; ComponentLink9URL: https://datasheet.ciiva.com/8033/70765-8033821.pdf?src-supplier=Element14; ComponentLink9Description: https://datasheet.ciiva.com/8033/70765-8033821.pdf?src-supplier=Element14; ComponentLink10URL: https://datasheet.ciiva.com/22749/1489800-22749214.pdf?src-supplier=Element14; ComponentLink10Description: https://datasheet.ciiva.com/22749/1489800-22749214.pdf?src-supplier=Element14; ComponentLink11URL: https://datasheet.ciiva.com/31394/1489800-31394927.pdf?src-supplier=Farnell; ComponentLink11Description: https://datasheet.ciiva.com/31394/1489800-31394927.pdf?src-supplier=Farnell
footprint C 0603(1608)x0.8_3
pins: 1, 2